# EAGLE library part 15VPSUPPLY (library myLib)
LM5007MM 15V 750mA Power Supply Module
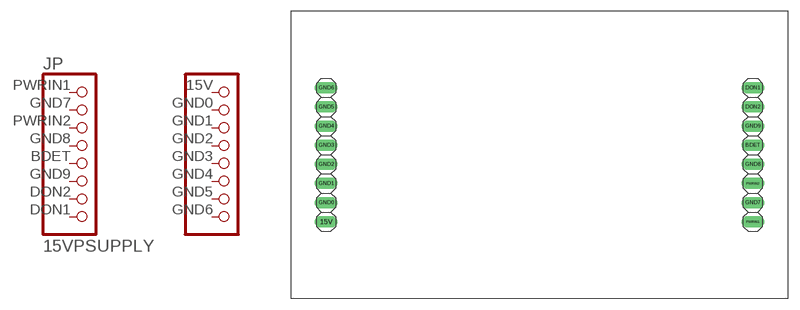
[diagram p15: symbol with the pads of 15VPSUPPLY; footprint 15VPSUPPLY]

Designator prefix JP

## 15VPSUPPLY  [15VPSUPPLY]
15V  1  pas
BDET  13  pas
DON1  16  pas
DON2  15  pas
GND0  2  pas
GND1  3  pas
GND2  4  pas
GND3  5  pas
GND4  6  pas
GND5  7  pas
GND6  8  pas
GND7  10  pas
GND8  12  pas
GND9  14  pas
PWRIN1  9  pas
PWRIN2  11  pas

## Footprint 15VPSUPPLY (pad centres in mm)
PIN HEADER
drill 1.016 long: 15V -28.321,-8.89; BDET 28.321,1.27; DON1 28.321,8.89; DON2 28.321,6.35; GND0 -28.321,-6.35; GND1 -28.321,-3.81; GND2 -28.321,-1.27; GND3 -28.321,1.27; GND4 -28.321,3.81; GND5 -28.321,6.35; GND6 -28.321,8.89; GND7 28.321,-6.35; GND8 28.321,-1.27; GND9 28.321,3.81; PWRIN1 28.321,-8.89; PWRIN2 28.321,-3.81